# Altium footprint library PcbLib.PcbLib: 27 footprints (part 2 of 2)
Each footprint in its own frame and in the unit in brackets; x right, y up, seen from the top. Pads: shape width x height; smd on the part's side, far side on the other; paste and mask are expansions set on the pad; w line width, h text height; cw(c..) or ccw(c..) is an arc to the next point about the centre after c.
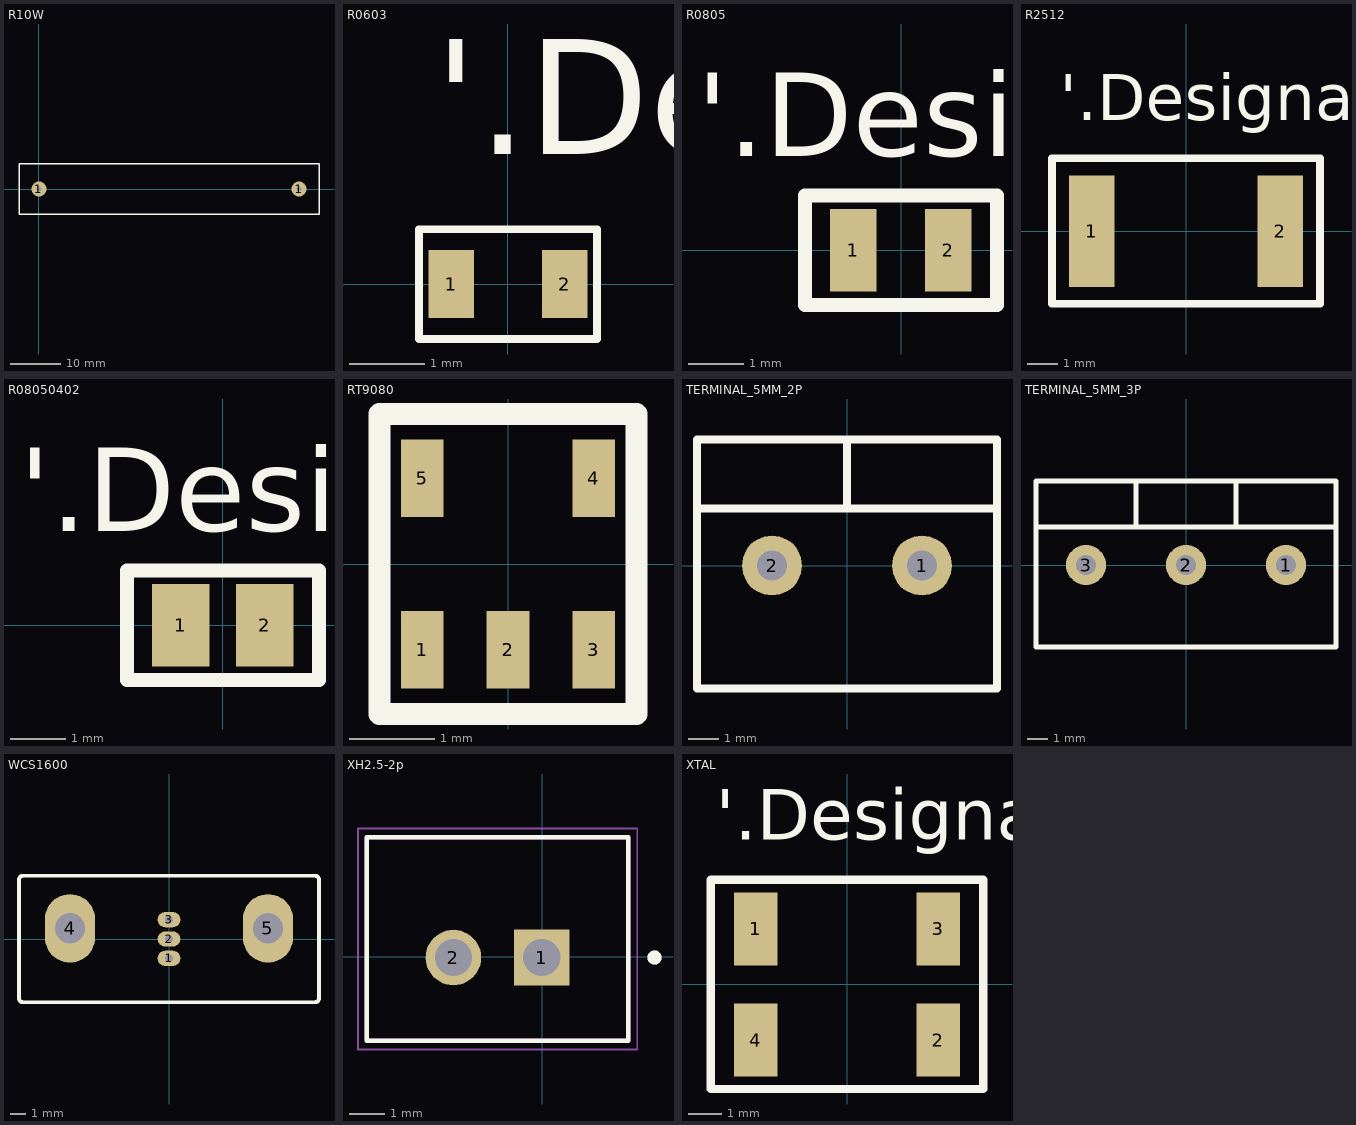
[diagram p1: the footprints below, top view; thin cyan lines are the x and y axes]

## R10W [mm]
pads (2):
  round 3 hole 1: 1(0,0) 1(52,0)
Top Overlay:
  lines w0.254: -4,-5 56,-5 56,5 -4,5 -4,-5

## R0603 [mm] "0603 Package"
pads (2):
  rect 0.6x0.9 smd mask+0.102: 1(-0.75,0) 2(0.75,0)
Top Overlay:
  lines w0.1: -1.175,-0.725 1.175,-0.725 1.175,0.725 -1.175,0.725 -1.175,-0.725
  text "'.Designator'" at -0.971,1.712 h1.52

## R0805 [mm] "0805 Package"
pads (2):
  rect 0.85x1.5 smd: 1(-0.875,0) 2(0.857,0)
Top Overlay:
  lines w0.254: -1.75,-1 1.75,-1 1.75,1 -1.75,1 -1.75,-1
  text "'.Designator'" at -3.721,1.712 h1.52

## R2512 [mm] "2512 Package"
pads (2):
  rect 1.5x3.7 smd: 1(-3.125,0) 2(3.125,0)
Top Overlay:
  lines w0.254: -4.445,-2.413 4.445,-2.413 4.445,2.413 -4.445,2.413 -4.445,-2.413
  text "'.Designator'" at -4.191,3.683 h1.52

## R08050402 [mm] "MOdified 0805"
pads (2):
  rect 1.05x1.5 smd: 1(-0.766,0) 2(0.766,0)
Top Overlay:
  lines w0.254: -1.741,-1 1.759,-1 1.759,1 -1.741,1 -1.741,-1
  text "'.Designator'" at -3.712,1.712 h1.52

## RT9080 [mm]
pads (5):
  rect 0.5x0.9 smd: 1(-1,-1) 2(0,-1) 3(1,-1) 4(1,1) 5(-1,1)
Top Layer:
  text "'.Designator'" at 3.488,-1.721 h1.52
Top Overlay:
  lines w0.254: -1.5,-1.75 1.5,-1.75 1.5,1.75 -1.5,1.75 -1.5,-1.75

## TERMINAL_5MM_2P [mm] "5mm screw terminal"
pads (2):
  round 2 hole 1: 1(2.5,0) 2(-2.5,0)
Top Overlay:
  lines w0.254: -5,4.138 -5,1.9 5,1.9 ; 0,1.9 0,4.2 ; -5,-4.1 5,-4.1 5,4.2 -5,4.2 -5,-4.1

## TERMINAL_5MM_3P [mm] "5mm screw terminal"
pads (4):
  round 2 hole 1: 1(5,0) 2(0,0) 2(0,0) 3(-5,0)
Top Overlay:
  lines w0.254: -7.5,1.9 7.5,1.9 ; -2.5,1.9 -2.5,4.138 ; 2.5,1.9 2.5,4.2 ; -7.5,-4.1 7.5,-4.1 7.5,4.2 -7.5,4.2 -7.5,-4.1

## WCS1600 [mm]
pads (5):
  rrect100% 1.5x1 hole 0.5: 1(0,-1.27) 2(0,0) 3(0,1.27)
  rrect100% 3.3x4.5 hole 2: 4(-6.5,0.7) 5(6.5,0.7)
Top Overlay:
  lines w0.254: -9.85,-3.896 ccw(c-9.596,-3.896) -9.596,-4.15 9.596,-4.15 ccw(c9.596,-3.896) 9.85,-3.896 9.85,3.896 ccw(c9.596,3.896) 9.596,4.15 -9.596,4.15 ccw(c-9.596,3.896) -9.85,3.896 -9.85,-3.896

## XH2.5-2p [mm]
pads (2):
  rect 1.575x1.575 / inner round 1.575 / far side rect 1.575x1.575 hole 1.05: 1(-0.02,-0.017)
  round 1.575 hole 1.05: 2(-2.52,-0.017)
Top Overlay:
  circle w0.2: c3.17,-0.017 r0.1
  lines w0.127: -4.97,-2.367 -4.97,3.383 2.43,3.383 2.43,-2.367 -4.97,-2.367
Mechanical 13:
  circle w0.2: c3.17,-0.017 r0.1
  lines w0.127: -4.97,-2.367 -4.97,3.383 2.43,3.383 2.43,-2.367 -4.97,-2.367
Mechanical 15:
  lines w0.05: -5.22,-2.617 2.68,-2.617 2.68,3.633 -5.22,3.633 -5.22,-2.617
3D body "step_temp.STEP": height 7, standoff -3.4, extent -4.97,-2.367 2.43,3.383

## XTAL [mm]
pads (4):
  rect 1.3x2.2 smd: 1(-2.75,1.675) 2(2.75,-1.675) 3(2.75,1.675) 4(-2.75,-1.675)
Top Overlay:
  lines w0.254: -4.1,-3.15 4.1,-3.15 4.1,3.15 -4.1,3.15 -4.1,-3.15
  text "'.Designator'" at -3.946,4.362 h1.52